# Altium footprint library ARJM11D7009ABEW2.PcbLib: 1 footprints
Each footprint in its own frame and in the unit in brackets; x right, y up, seen from the top. Pads: shape width x height; smd on the part's side, far side on the other; paste and mask are expansions set on the pad; w line width, h text height; cw(c..) or ccw(c..) is an arc to the next point about the centre after c.
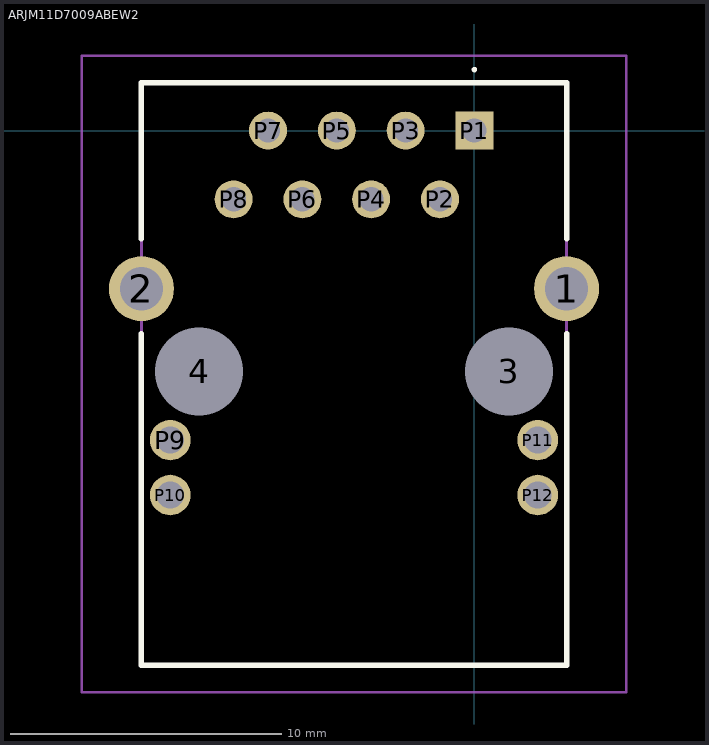
[diagram p0: the footprint, top view; thin cyan lines are the x and y axes]

## ARJM11D7009ABEW2 [mm]
pads (16):
  round 2.4 hole 1.6: 1(3.405,-5.84) 2(-12.295,-5.84)
  round 1.625 hole 3.25 unplated: 3(1.27,-8.89) 4(-10.16,-8.89)
  rect 1.4x1.4 hole 0.9: P1(0,0)
  round 1.4 hole 0.9: P2(-1.27,-2.54) P3(-2.54,0) P4(-3.81,-2.54) P5(-5.08,0) P6(-6.35,-2.54) P7(-7.62,0) P8(-8.89,-2.54)
  round 1.5 hole 1: P9(-11.23,-11.43) P10(-11.23,-13.46) P11(2.34,-11.43) P12(2.34,-13.46)
Top Overlay:
  lines w0.1: 0,2.2 0,2.2 ; 0,2.2 ccw(c0,2.25) 0,2.3 ; 0,2.2 cw(c0,2.25) 0,2.3 ; 0,2.3 0,2.3
  lines w0.2: -12.295,-7.5 -12.295,-19.74 3.405,-19.74 3.405,-7.5 ; -12.295,-4 -12.295,1.76 3.405,1.76 3.405,-4
Mechanical 15:
  lines w0.1: -12.295,-19.74 3.405,-19.74 3.405,1.76 -12.295,1.76 -12.295,-19.74
Mechanical 20:
  lines w0.1: -14.495,-20.74 5.605,-20.74 5.605,2.76 -14.495,2.76 -14.495,-20.74